# Altium footprint library SKYWORKS QFN-12 2X2MM.PCBLIB: 1 footprints
Each footprint in its own frame and in the unit in brackets; x right, y up, seen from the top. Pads: shape width x height; smd on the part's side, far side on the other; paste and mask are expansions set on the pad; w line width, h text height; cw(c..) or ccw(c..) is an arc to the next point about the centre after c.
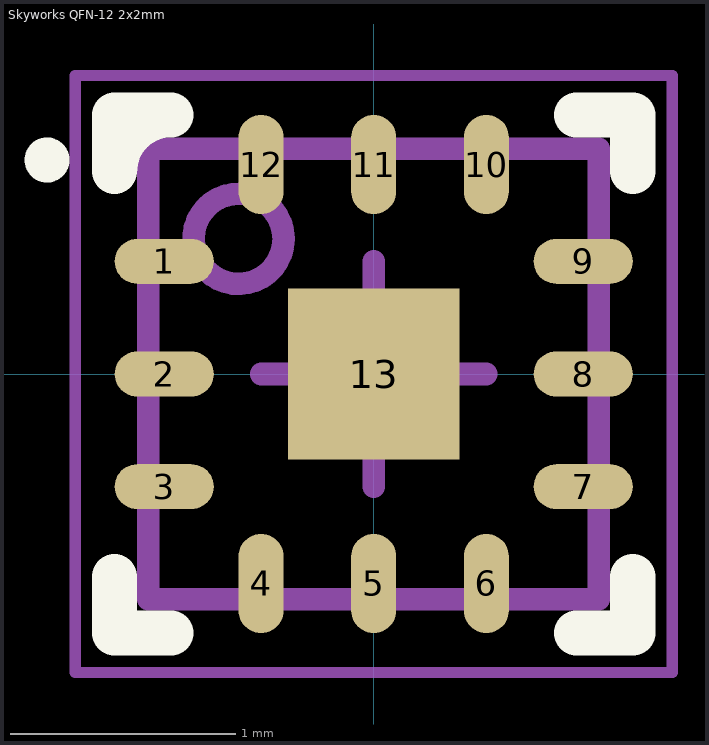
[diagram p0: the footprint, top view; thin cyan lines are the x and y axes]

## Skyworks QFN-12 2x2mm [mm] "QFN, 12-Leads, Body 2.00x2.00mm, Pitch 0.50mm, Thermal Pad 0.76x0.76mm, IPC High Density"
height 0.55
pads (13):
  oval 0.44x0.2 smd: 1(-0.93,0.5) 2(-0.93,0) 3(-0.93,-0.5) 7(0.93,-0.5) 8(0.93,0) 9(0.93,0.5)
  oval 0.2x0.44 smd: 4(-0.5,-0.93) 5(0,-0.93) 6(0.5,-0.93) 10(0.5,0.93) 11(0,0.93) 12(-0.5,0.93)
  rect 0.76x0.76 smd: 13(0,0)
Top Overlay:
  circle w0.1: c-1.45,0.95 r0.05
  lines w0.2: -1.15,-0.9 -1.15,-1.15 -0.9,-1.15 ; 0.9,-1.15 1.15,-1.15 1.15,-0.9 ; 0.9,1.15 1.15,1.15 1.15,0.9 ; -1.15,0.9 cw(c-0.9,0.9) -0.9,1.15 -1.15,1.15 -1.15,0.9
Mechanical 13:
  circle w0.1: c-0.6,0.6 r0.2
  lines w0.1: -1,-1 -1,1 1,1 1,-1 -1,-1
Mechanical 15:
  lines w0.05: -1.325,-1.325 -1.325,1.325 1.325,1.325 1.325,-1.325 -1.325,-1.325
  lines w0.1: -0.5,0 0.5,0 ; 0,-0.5 0,0.5
3D body: height 0.55, standoff 0.01, extent -1,-1 1,1